# EAGLE library part LTC3531 (library HelmetHUD)
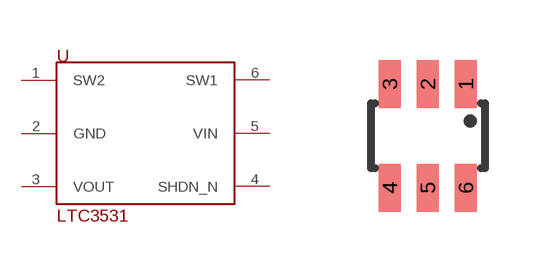
[diagram p9: symbol with the pads of SOT23-6; footprint SOT23-6]

Designator prefix -

## LTC3531  [SOT23-6]
1  SW2
2  GND
3  VOUT
4  SHDN_N
5  VIN
6  SW1

## Footprint SOT23-6 (pad centres in mm)
smd 0.55 x 1.2: 1 0.95,1.3; 2 0,1.3; 3 -0.95,1.3; 4 -0.95,-1.3; 5 0,-1.3; 6 0.95,-1.3